# Altium schematic symbol library BatteryHolder.SchLib: 1 symbol
Pins are listed as number, name and electrical type; pins without a type are passive.

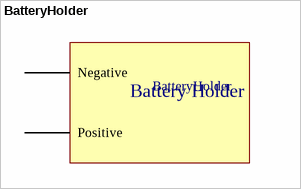
[diagram p0: symbol BatteryHolder]

## BatteryHolder
designator BatteryHolder  (value not drawn)
footprint SOIC127P370X135-2N (SOIC, 2-Leads, Body 1.55x2.70mm, Pitch 1.27mm, IPC Medium Density)
pins: 1n Negative, 1p Positive
text: Battery Holder